# Altium schematic symbol library Schlib1.SchLib: 2 symbols
Pins are listed as number, name and electrical type; pins without a type are passive.

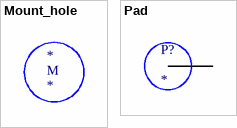
[diagram p0: symbols Mount_hole to Pad]

## Mount_hole
designator *
footprint Mount_hole_pcb
text: M

## Pad
designator P?
footprint Pad_pcb
pins: 1